# EAGLE library part 204926-1103 (library Connectors)
CONN RCPT USB2.0 MICRO B SMD R/A Manufacturer's datasheet <https://www.molex.com/pdm_docs/sd/2049261103_sd.pdf>
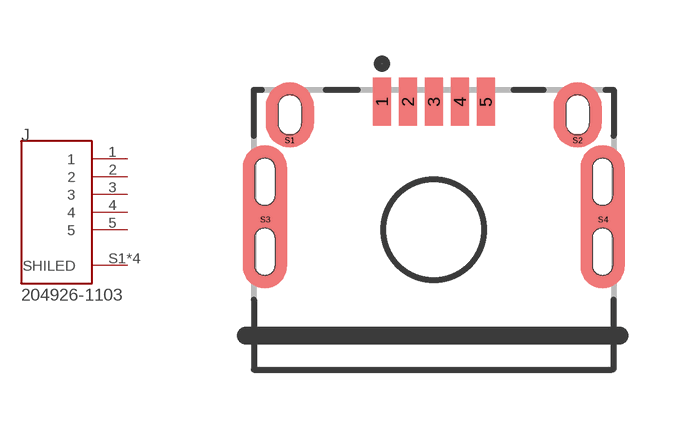
[diagram p11: symbol with the pads of 204926-1103; footprint 204926-1103]

Designator prefix J

## 204926-1103 (CREATED_BY: PCBLayout.com; DIGI_KEY_PART_NO: WM22189TR-ND; MANUFACTURER: MOLEX; MPN: 204926-1103)  [204926-1103]
1  1  pas
2  2  pas
3  3  pas
4  4  pas
5  5  pas
S1  SHILED  pwr
S2  SHILED  pwr
S3  SHILED  pwr
S4  SHILED  pwr

## Footprint 204926-1103 (pad centres in mm)
smd 0.45 x 1.2: 1 -1.3,2.89; 2 -0.65,2.89; 3 0,2.89; 4 0.65,2.89; 5 1.3,2.89
smd 0.2 x 0.2: S1 -3.6,1.93; S2 3.6,1.93; S3 -4.215,-0.053; S4 4.235,-0.053